# EAGLE library part HT1625 (library pimoroni-ics)
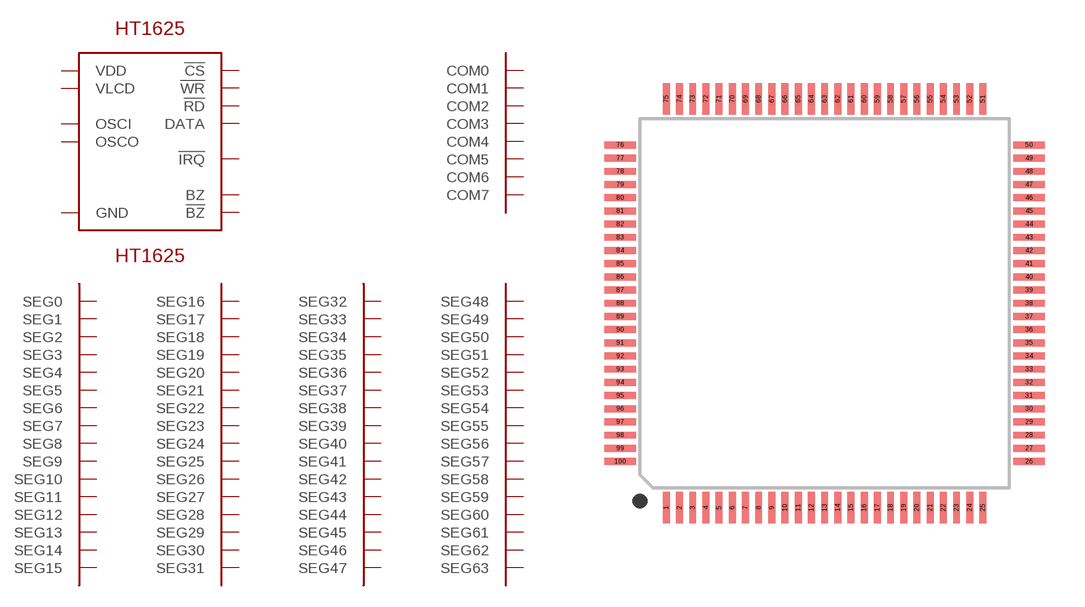
[diagram p80: symbol with the pads of LQFP-100; footprint LQFP-100]

Designator prefix -

## HT1625  [LQFP-100]
1  !CS
2  !RD
3  !WR
4  DATA
5  GND
6  OSCI
7  OSCO
8  VDD
9  VLCD
10  !IRQ
11  BZ
12  !BZ
17  COM0
18  COM1
19  COM2
20  COM3
25  COM4
27  COM5
29  COM6
31  COM7
34  SEG0
35  SEG1
36  SEG2
37  SEG3
38  SEG4
39  SEG5
40  SEG6
41  SEG7
42  SEG8
43  SEG9
44  SEG10
45  SEG11
46  SEG12
47  SEG13
48  SEG14
49  SEG15
50  SEG16
51  SEG17
52  SEG18
53  SEG19
54  SEG20
57  SEG21
58  SEG22
59  SEG23
60  SEG24
61  SEG25
62  SEG26
63  SEG27
64  SEG28
65  SEG29
66  SEG30
67  SEG31
68  SEG32
69  SEG33
70  SEG34
71  SEG35
72  SEG36
73  SEG37
74  SEG38
75  SEG39
76  SEG40
77  SEG41
78  SEG42
80  SEG43
81  SEG44
82  SEG45
83  SEG46
84  SEG47
85  SEG48
86  SEG49
87  SEG50
88  SEG51
89  SEG52
90  SEG53
91  SEG54
92  SEG55
93  SEG56
94  SEG57
95  SEG58
96  SEG59
97  SEG60
98  SEG61
99  SEG62
100  SEG63

## Footprint LQFP-100 (pad centres in mm)
smd 0.26 x 1.2: 1 -6,-7.75; 2 -5.5,-7.75; 3 -5,-7.75; 4 -4.5,-7.75; 5 -4,-7.75; 6 -3.5,-7.75; 7 -3,-7.75; 8 -2.5,-7.75; 9 -2,-7.75; 10 -1.5,-7.75; 11 -1,-7.75; 12 -0.5,-7.75; 13 0,-7.75; 14 0.5,-7.75; 15 1,-7.75; 16 1.5,-7.75; 17 2,-7.75; 18 2.5,-7.75; 19 3,-7.75; 20 3.5,-7.75; 21 4,-7.75; 22 4.5,-7.75; 23 5,-7.75; 24 5.5,-7.75; 25 6,-7.75; 51 6,7.75; 52 5.5,7.75; 53 5,7.75; 54 4.5,7.75; 55 4,7.75; 56 3.5,7.75; 57 3,7.75; 58 2.5,7.75; 59 2,7.75; 60 1.5,7.75; 61 1,7.75; 62 0.5,7.75; 63 0,7.75; 64 -0.5,7.75; 65 -1,7.75; 66 -1.5,7.75; 67 -2,7.75; 68 -2.5,7.75; 69 -3,7.75; 70 -3.5,7.75; 71 -4,7.75; 72 -4.5,7.75; 73 -5,7.75; 74 -5.5,7.75; 75 -6,7.75
smd 1.2 x 0.26: 26 7.75,-6; 27 7.75,-5.5; 28 7.75,-5; 29 7.75,-4.5; 30 7.75,-4; 31 7.75,-3.5; 32 7.75,-3; 33 7.75,-2.5; 34 7.75,-2; 35 7.75,-1.5; 36 7.75,-1; 37 7.75,-0.5; 38 7.75,0; 39 7.75,0.5; 40 7.75,1; 41 7.75,1.5; 42 7.75,2; 43 7.75,2.5; 44 7.75,3; 45 7.75,3.5; 46 7.75,4; 47 7.75,4.5; 48 7.75,5; 49 7.75,5.5; 50 7.75,6; 76 -7.75,6; 77 -7.75,5.5; 78 -7.75,5; 79 -7.75,4.5; 80 -7.75,4; 81 -7.75,3.5; 82 -7.75,3; 83 -7.75,2.5; 84 -7.75,2; 85 -7.75,1.5; 86 -7.75,1; 87 -7.75,0.5; 88 -7.75,0; 89 -7.75,-0.5; 90 -7.75,-1; 91 -7.75,-1.5; 92 -7.75,-2; 93 -7.75,-2.5; 94 -7.75,-3; 95 -7.75,-3.5; 96 -7.75,-4; 97 -7.75,-4.5; 98 -7.75,-5; 99 -7.75,-5.5; 100 -7.75,-6